# Altium schematic symbol library WT12.Schlib: 1 symbol
Pins are listed as number, name and electrical type; pins without a type are passive.

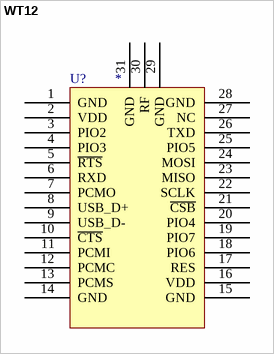
[diagram p0: symbol WT12]

## WT12
designator U?
Bluetooth Module
footprint WT12 (BlueGiga WT12 Bluetooth Module)
pins: 1 GND, 2 VDD, 3 PIO2, 4 PIO3, 5 ~{RTS}, 6 RXD, 7 PCMO, 8 USB_D+, 9 USB_D-, 10 ~{CTS}, 11 PCMI, 12 PCMC, 13 PCMS, 14 GND, 15 GND, 16 VDD, 17 RES, 18 PIO6, 19 PIO7, 20 PIO4, 21 ~{CSB}, 22 SCLK, 23 MISO, 24 MOSI, 25 PIO5, 26 TXD, 27 NC, 28 GND, 29 GND, 30 RF, 31 GND
2 alternate drawings of the same symbol